# Altium footprint library Resistors.PcbLib: 9 footprints
Each footprint in its own frame and in the unit in brackets; x right, y up, seen from the top. Pads: shape width x height; smd on the part's side, far side on the other; paste and mask are expansions set on the pad; w line width, h text height; cw(c..) or ccw(c..) is an arc to the next point about the centre after c.
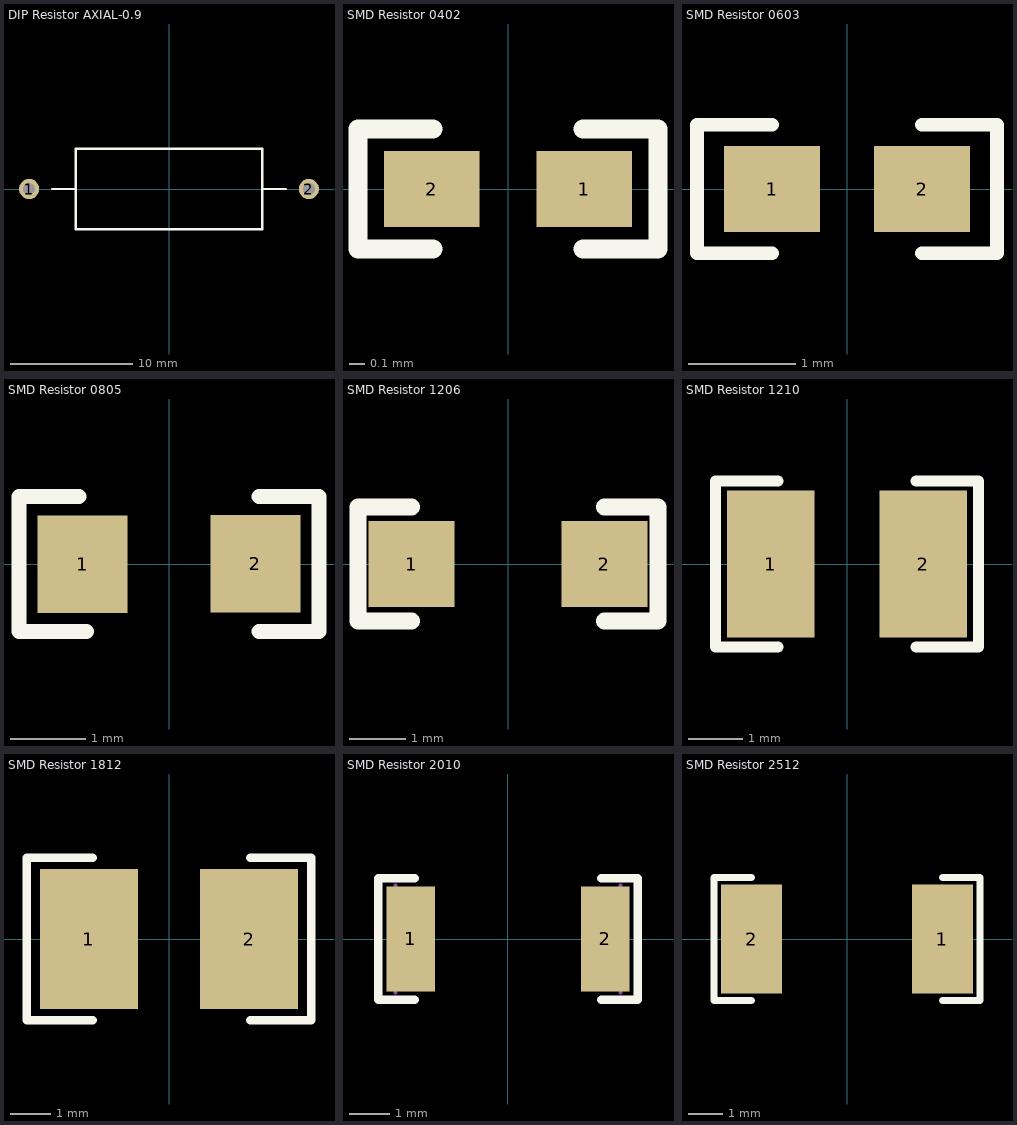
[diagram p0: the footprints below, top view; thin cyan lines are the x and y axes]

## DIP Resistor AXIAL-0.9 [mm] "DIP Resistor AXIAL-0.9"
height 5.08
pads (2):
  round 1.65 hole 1: 1(-11.43,0) 2(11.43,0)
Top Overlay:
  lines w0.2: -9.525,0 -7.62,0 ; 7.62,0 9.525,0 ; -7.62,-3.3 -7.62,3.3 7.62,3.3 7.62,-3.3 -7.62,-3.3
3D body "DIP Resistor AXIAL-0.9.STEP": height 6.5, standoff -3, extent -11.8,-3.25 11.86,3.25

## SMD Resistor 0402 [mil] "0402"
pads (2):
  rect 25x20 smd: 1(20,0) 2(-20,0)
Top Overlay:
  lines w5: -19.68,-15.75 -39.37,-15.75 -39.37,15.75 -19.68,15.75 ; 19.68,-15.75 39.37,-15.75 39.37,15.75 19.68,15.75
3D body "SMD Resistor 0402.STEP": height 12.8, standoff -0.98, extent -19.7,-9.83 19.68,9.85

## SMD Resistor 0603 [mm] "0603"
pads (2):
  rect 0.9x0.8 smd: 1(-0.7,0) 2(0.7,0)
Top Overlay:
  lines w0.127: -0.7,-0.6 -1.4,-0.6 -1.4,0.6 -0.7,0.6 ; 0.7,-0.6 1.4,-0.6 1.4,0.6 0.7,0.6
3D body "SMD Resistor 0603.STEP": height 0.44, standoff -0.02, extent -0.8,-0.4 0.8,0.4

## SMD Resistor 0805 [mm] "0805"
pads (2):
  rect 1.2x1.3 smd: 1(-1.152,-0.002) 2(1.152,0.002)
Top Overlay:
  lines w0.2: -2,-0.9 -1.1,-0.9 ; -2,0.9 -1.2,0.9 ; 1.2,-0.9 2,-0.9 ; 1.2,0.9 2,0.9
  lines w0.203: -2,-0.9 -2,0.9 ; 2,-0.9 2,0.9
3D body "SMD Resistor 0805.STEP": height 0.57, standoff -0.03, extent -1,-0.625 1,0.625

## SMD Resistor 1206 [mil] "1206"
pads (2):
  rect 60x60 smd: 1(-67.5,0) 2(67.5,0)
Top Overlay:
  lines w12: -67.5,-40 -105,-40 -105,40 -67.5,40 ; 67.5,-40 105,-40 105,40 67.5,40
3D body "SMD Resistor 1206.STEP": height 23.23, standoff -0.39, extent -62.99,-31.49 62.99,31.5

## SMD Resistor 1210 [mm] "1210"
pads (2):
  rect 1.6x2.7 smd: 1(-1.4,0) 2(1.4,0)
Top Overlay:
  lines w0.203: -1.27,-1.524 -2.413,-1.524 -2.413,1.524 -1.27,1.524 ; 1.27,-1.524 2.413,-1.524 2.413,1.524 1.27,1.524
3D body "SMD Resistor 1210.STEP": height 0.6, standoff 0, extent -1.6,-1.25 1.6,1.25

## SMD Resistor 1812 [mm] "1812"
pads (2):
  rect 2.45x3.5 smd: 1(-2,0) 2(2,0)
Top Overlay:
  lines w0.203: -1.905,-2.032 -3.556,-2.032 -3.556,2.032 -1.905,2.032 ; 2.032,-2.032 3.556,-2.032 3.556,2.032 2.032,2.032
3D body "SMD Resistor 1812.STEP": height 0.6, standoff 0, extent -2.25,-1.6 2.25,1.6

## SMD Resistor 2010 [mm] "2010"
pads (2):
  rect 1.2x2.6 smd: 1(-2.4,0) 2(2.4,0)
Top Overlay:
  lines w0.203: -2.3,-1.5 -3.2,-1.5 -3.2,1.5 -2.3,1.5 ; 2.3,-1.5 3.2,-1.5 3.2,1.5 2.3,1.5
Mechanical 13:
  lines w0.1: -2.775,-1.325 -2.775,1.325 ; 2.775,-1.325 2.775,1.325
3D body "SMD Resistor 2010.STEP": height 0.6, standoff 0, extent -2.5,-1.25 2.5,1.25

## SMD Resistor 2512 [mm] "2512"
pads (2):
  rect 1.8x3.2 smd: 1(2.8,0) 2(-2.8,0)
Top Overlay:
  lines w0.203: -2.8,-1.8 -3.9,-1.8 -3.9,1.8 -2.8,1.8 ; 2.8,-1.8 3.9,-1.8 3.9,1.8 2.8,1.8
3D body "SMD Resistor 2512.STEP": height 0.6, standoff 0, extent -3.2,-1.6 3.2,1.6